# Altium footprint library HEART.PcbLib: 1 footprints
Each footprint in its own frame and in the unit in brackets; x right, y up, seen from the top. Pads: shape width x height; smd on the part's side, far side on the other; paste and mask are expansions set on the pad; w line width, h text height; cw(c..) or ccw(c..) is an arc to the next point about the centre after c.
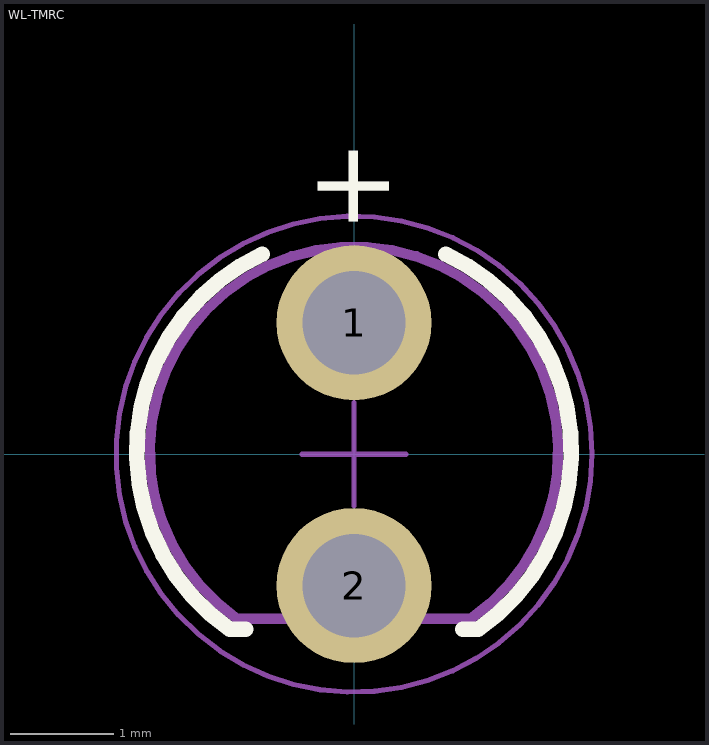
[diagram p0: the footprint, top view; thin cyan lines are the x and y axes]

## WL-TMRC [mm]
pads (2):
  round 1.5 hole 1: 1(0,1.27) 2(0,-1.27)
Top Overlay:
  lines w0.15: -1.047,-1.694 -1.199,-1.694 cw(c0,0.03) -0.889,1.933 ; 0.889,1.933 cw(c0,0.03) 1.199,-1.694 ; 1.052,-1.694 1.179,-1.694
  text "+" at -0.35,3.05 h0.8
Top Designator:
  text ".Designator" at -0.333,4.871 h1
Top Component Outline:
  lines w0.1: -1.128,-1.591 cw(c0,0.03) 1.128,-1.591 -1.128,-1.591
Top Courtyard:
  circle w0.05: c0,0 r2.3
  lines w0.05: -0.5,0 0.5,0 ; 0,-0.5 0,0.5
3D body "15103xxx.stp": height 5.35, standoff -26.35, extent -1.974,-1.629 1.974,1.991